# Altium schematic symbol library SCH - POWER - LINEAR VREG - TI UCC2818A-Q1_D_16.SchLib: 1 symbol
Pins are listed as number, name and electrical type; pins without a type are passive.

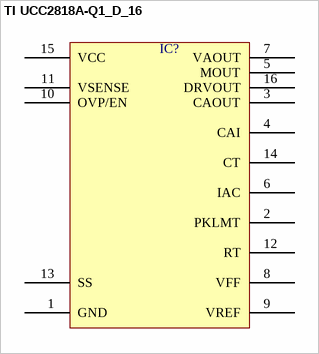
[diagram p0: symbol TI UCC2818A-Q1_D_16]

## TI UCC2818A-Q1_D_16
designator IC?  (value not drawn)
pins: 1 GND, 2 PKLMT, 3 CAOUT, 4 CAI, 5 MOUT, 6 IAC, 7 VAOUT, 8 VFF, 9 VREF, 10 OVP/EN, 11 VSENSE, 12 RT, 13 SS, 14 CT, 15 VCC, 16 DRVOUT